# EAGLE library part RJ45X8 (library DAWA 6.1)
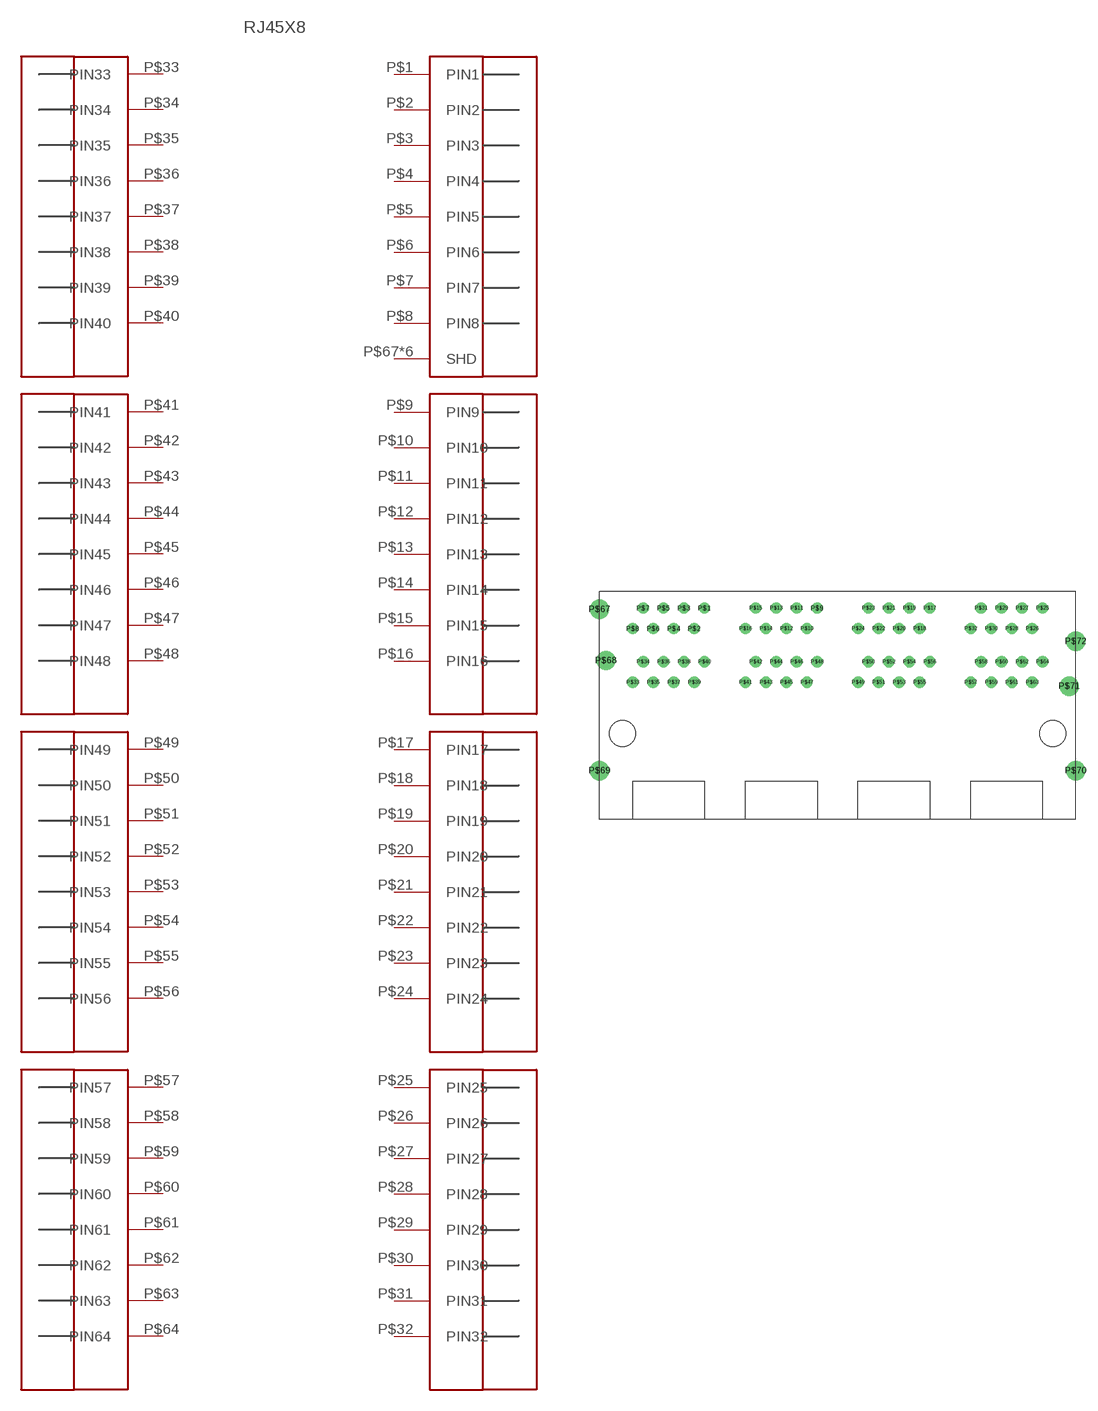
[diagram p4: symbol with the pads of RJ45X8; footprint RJ45X8]

Designator prefix -

## RJ45X8  [RJ45X8]
P$1  PIN1
P$2  PIN2
P$3  PIN3
P$4  PIN4
P$5  PIN5
P$6  PIN6
P$7  PIN7
P$8  PIN8
P$9  PIN9
P$10  PIN10
P$11  PIN11
P$12  PIN12
P$13  PIN13
P$14  PIN14
P$15  PIN15
P$16  PIN16
P$17  PIN17
P$18  PIN18
P$19  PIN19
P$20  PIN20
P$21  PIN21
P$22  PIN22
P$23  PIN23
P$24  PIN24
P$25  PIN25
P$26  PIN26
P$27  PIN27
P$28  PIN28
P$29  PIN29
P$30  PIN30
P$31  PIN31
P$32  PIN32
P$33  PIN33
P$34  PIN34
P$35  PIN35
P$36  PIN36
P$37  PIN37
P$38  PIN38
P$39  PIN39
P$40  PIN40
P$41  PIN41
P$42  PIN42
P$43  PIN43
P$44  PIN44
P$45  PIN45
P$46  PIN46
P$47  PIN47
P$48  PIN48
P$49  PIN49
P$50  PIN50
P$51  PIN51
P$52  PIN52
P$53  PIN53
P$54  PIN54
P$55  PIN55
P$56  PIN56
P$57  PIN57
P$58  PIN58
P$59  PIN59
P$60  PIN60
P$61  PIN61
P$62  PIN62
P$63  PIN63
P$64  PIN64
P$67  SHD
P$68  SHD
P$69  SHD
P$70  SHD
P$71  SHD
P$72  SHD

## Footprint RJ45X8 (pad centres in mm)
drill 0.9: P$1 13.018,22.701; P$2 11.748,20.161; P$3 10.477,22.701; P$4 9.207,20.161; P$5 7.938,22.701; P$6 6.668,20.161; P$7 5.397,22.701; P$8 4.128,20.161; P$9 26.988,22.701; P$10 25.718,20.161; P$11 24.448,22.701; P$12 23.177,20.161; P$13 21.907,22.701; P$14 20.637,20.161; P$15 19.367,22.701; P$16 18.098,20.161; P$17 40.958,22.701; P$18 39.688,20.161; P$19 38.417,22.701; P$20 37.148,20.161; P$21 35.877,22.701; P$22 34.608,20.161; P$23 33.337,22.701; P$24 32.068,20.161; P$25 54.928,22.701; P$26 53.657,20.161; P$27 52.388,22.701; P$28 51.117,20.161; P$29 49.847,22.701; P$30 48.578,20.161; P$31 47.307,22.701; P$32 46.038,20.161; P$33 4.128,13.494; P$34 5.397,16.034; P$35 6.668,13.494; P$36 7.938,16.034; P$37 9.207,13.494; P$38 10.477,16.034; P$39 11.748,13.494; P$40 13.018,16.034; P$41 18.098,13.494; P$42 19.367,16.034; P$43 20.637,13.494; P$44 21.907,16.034; P$45 23.177,13.494; P$46 24.448,16.034; P$47 25.718,13.494; P$48 26.988,16.034; P$49 32.068,13.494; P$50 33.337,16.034; P$51 34.608,13.494; P$52 35.877,16.034; P$53 37.148,13.494; P$54 38.417,16.034; P$55 39.688,13.494; P$56 40.958,16.034; P$57 46.038,13.494; P$58 47.307,16.034; P$59 48.578,13.494; P$60 49.847,16.034; P$61 51.117,13.494; P$62 52.388,16.034; P$63 53.657,13.494; P$64 54.928,16.034
drill 1.6: P$67 0,22.543; P$68 0.794,16.192; P$69 0,2.54; P$70 59.055,2.54; P$71 58.261,13.018; P$72 59.055,18.574
hole 3.2 at 2.857,7.144
hole 3.2 at 56.197,7.144